# Altium footprint library Components - 23.10.24 - 13.41.PcbLib: 2 footprints
Each footprint in its own frame and in the unit in brackets; x right, y up, seen from the top. Pads: shape width x height; smd on the part's side, far side on the other; paste and mask are expansions set on the pad; w line width, h text height; cw(c..) or ccw(c..) is an arc to the next point about the centre after c.
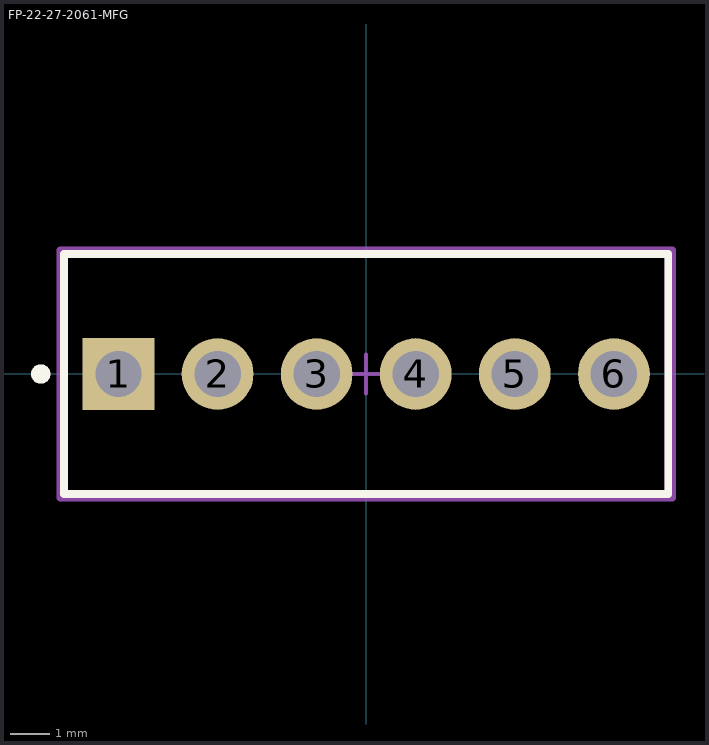
[diagram p0: the footprints below, top view; thin cyan lines are the x and y axes]

## FP-22-27-2061-MFG [mm]
pads (6):
  rect 1.84x1.84 hole 1.19 paste-1000 mask+0: 1(-6.35,0)
  round 1.84 hole 1.19 paste-1000 mask+0: 2(-3.81,0) 3(-1.27,0) 4(1.27,0) 5(3.81,0) 6(6.35,0)
Top Overlay:
  circle w0.25: c-8.345,0 r0.125
  lines w0.2: -7.745,-3.075 7.745,-3.075 7.745,3.075 -7.745,3.075 -7.745,-3.075
Mechanical 5:
  lines w0.2: -7.845,-3.175 7.845,-3.175 7.845,3.175 -7.845,3.175 -7.845,-3.175
  text ".Designator" at 0,0.188 h1
Mechanical 13:
  lines w0.2: -7.745,-3.075 7.745,-3.075 7.745,3.075 -7.745,3.075 -7.745,-3.075
Mechanical 15:
  lines w0.2: -7.845,-3.175 7.845,-3.175 7.845,3.175 -7.845,3.175 -7.845,-3.175
Mechanical 16:
  lines w0.1: -0.5,0 0.5,0 ; 0,-0.5 0,0.5
3D body "Conn_Molex_22-27-2061_eec.STEP": height 0.25, standoff 0, extent -7.845,-3.175 7.845,3.175

## PCBComponent_1 [mil]